# Altium footprint library Discrete.PcbLib: 51 footprints (part 3 of 4)
Each footprint in its own frame and in the unit in brackets; x right, y up, seen from the top. Pads: shape width x height; smd on the part's side, far side on the other; paste and mask are expansions set on the pad; w line width, h text height; cw(c..) or ccw(c..) is an arc to the next point about the centre after c.
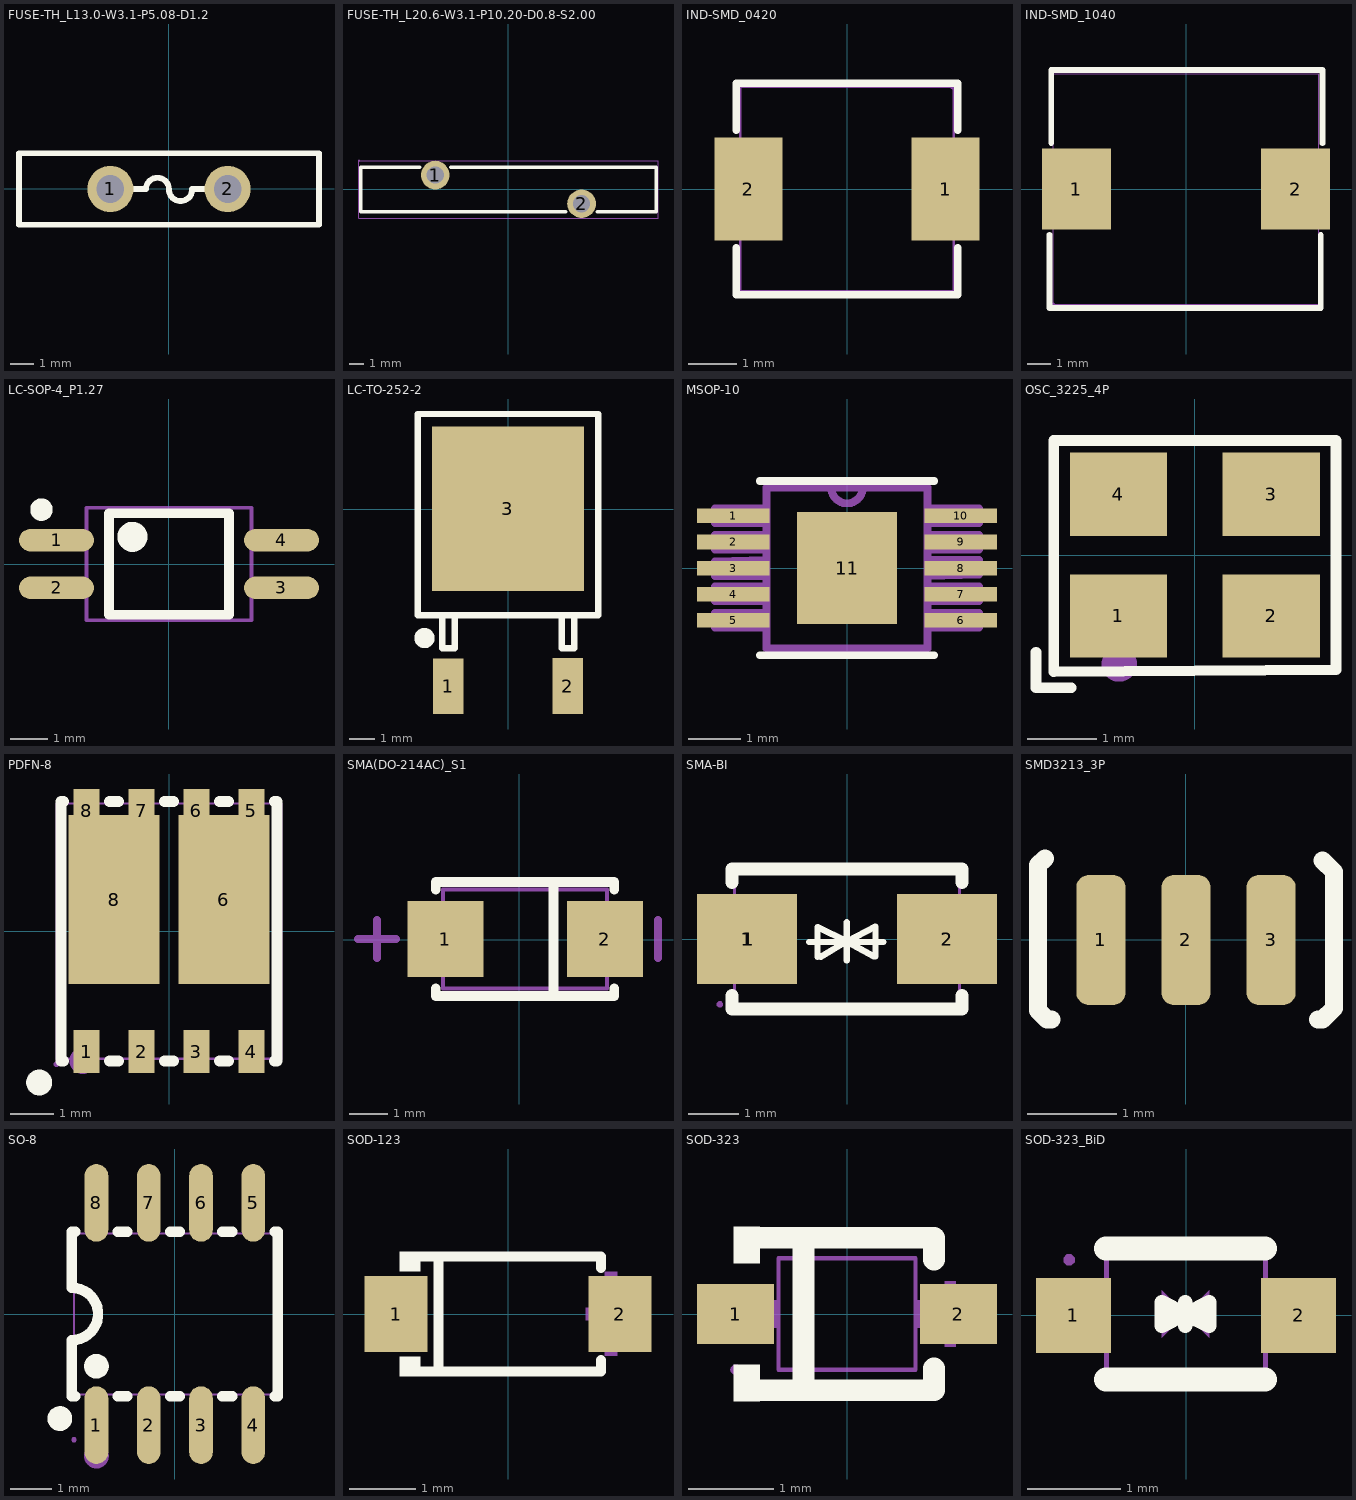
[diagram p2: the footprints below, top view; thin cyan lines are the x and y axes]

## FUSE-TH_L13.0-W3.1-P5.08-D1.2 [mm]
pads (2):
  round 2 hole 1.2: 1(-2.54,0) 2(2.54,0)
Top Overlay:
  lines w0.254: -6.5,-1.55 -6.5,1.55 6.5,1.55 6.5,-1.55 ; -6.5,-1.55 6.5,-1.55 ; -2,0 -1,0 cw(c-0.5,-0.011) 0,0 ccw(c0.5,-0.023) 1.001,0 ; 1,0 2,0
3D body "C369106_FUSE-TH_L13.2-W3.0-P5.1.step": height 12.7, standoff -6.3, extent -6.591,-4.772 6.54,4.772

## FUSE-TH_L20.6-W3.1-P10.20-D0.8-S2.00 [mm]
pads (2):
  round 2 hole 1.2: 1(-5.1,1) 2(5.1,-1)
Top Overlay:
  lines w0.254: -6.201,1.55 -10.3,1.55 -10.3,-1.55 3.999,-1.55 ; -3.999,1.55 10.287,1.55 ; 6.201,-1.55 10.3,-1.55 10.3,1.5
Mechanical 15:
  region: -10.367,2 -10.367,2.025 -10.402,2.06 -10.452,2.06 -10.487,2.025 -10.487,2 -10.487,1.975 -10.452,1.94 -10.402,1.94 -10.367,1.975
  region: 5.6,-1 5.599,-0.901 5.522,-0.72 5.381,-0.581 5.199,-0.506 5.001,-0.506 4.819,-0.581 4.678,-0.72 4.601,-0.901 4.6,-1 4.601,-1.099 4.678,-1.28 4.819,-1.419 5.001,-1.494 5.199,-1.494 5.381,-1.419 5.522,-1.28 5.599,-1.099
  region: -4.6,1 -4.601,1.099 -4.678,1.28 -4.819,1.419 -5.001,1.494 -5.199,1.494 -5.381,1.419 -5.522,1.28 -5.599,1.099 -5.6,1 -5.599,0.901 -5.522,0.72 -5.381,0.581 -5.199,0.506 -5.001,0.506 -4.819,0.581 -4.678,0.72 -4.601,0.901
  lines w0.051: -10.427,-2 -10.427,2 10.427,2 10.427,-2 -10.427,-2
3D body "C369094_FUSE-TH_L20.6-W3.1-H24.6-P10.2-D0.8-S2.00.step": height 6.7, standoff -25.5, extent -10.148,-1.703 10.452,1.397

## IND-SMD_0420 [mm]
pads (2):
  rect 1.4x2.12 smd: 1(2.028,0) 2(-2.028,0)
Top Overlay:
  lines w0.152: -2.276,-1.212 -2.276,-2.176 2.276,-2.176 2.276,-1.212 ; -2.276,1.212 -2.276,2.176 2.276,2.176 2.276,1.212
Mechanical 15:
  region: -2.2,1 -1.4,1 -1.4,-1 -2.2,-1
  region: 1.4,1 2.2,1 2.2,-1 1.4,-1
  region: 2.26,2.1 2.259,2.124 2.224,2.158 2.176,2.158 2.141,2.124 2.14,2.1 2.141,2.076 2.176,2.042 2.224,2.042 2.259,2.076
  lines w0.051: -2.2,-2.1 2.2,-2.1 2.2,2.1 -2.2,2.1 -2.2,-2.1
3D body "IND_SMD_POW_INTMOD_0420.STEP": height 1.81, standoff -0.2, extent -2.15,-1.974 2.15,2.025

## IND-SMD_1040 [mm]
pads (2):
  rect 3x3.5 smd: 1(-4.75,0) 2(4.75,0)
Top Overlay:
  lines w0.254: -5.92,-1.98 -5.92,-5.16 5.84,-5.16 5.84,-2 ; -5.84,2 -5.84,5.16 5.92,5.16 5.92,1.98
Mechanical 15:
  region: -5.69,-5 -5.69,-4.975 -5.725,-4.94 -5.775,-4.94 -5.81,-4.975 -5.81,-5 -5.81,-5.025 -5.775,-5.06 -5.725,-5.06 -5.69,-5.025
  region: 3.75,1.5 5.75,1.5 5.75,-1.5 3.75,-1.5
  region: -5.75,1.5 -3.75,1.5 -3.75,-1.5 -5.75,-1.5
  lines w0.051: -5.75,-5 5.75,-5 5.75,5 -5.75,5 -5.75,-5
3D body "IND_SMD_POW_INTMOD_1040.STEP": height 4.06, standoff 0.05, extent -5.324,-4.949 5.476,5.051

## LC-SOP-4_P1.27 [mm]
pads (4):
  oval 2x0.6 smd: 1(-3,0.635) 2(-3,-0.635) 3(3,-0.635) 4(3,0.635)
Top Overlay:
  circle w0.4: c-0.975,0.725 r0.2
  circle w0.3: c-3.4,1.45 r0.15
  lines w0.254: -1.6,-1.35 1.6,-1.35 1.6,1.35 -1.6,1.35 -1.6,-1.35
Mechanical 13:
  lines w0.1: -2.2,-1.5 2.2,-1.5 2.2,1.5 -2.2,1.5 -2.2,-1.5
3D body "User Library-SOP-4-1.STEP": height 2.1, standoff 0, extent -3.475,-1.428 3.525,1.372

## LC-TO-252-2 [mm]
pads (3):
  rect 1.2x2.2 smd: 1(-2.361,-6.985) 2(2.361,-6.981)
  rect 6x6.5 smd: 3(0,0.015)
Top Overlay:
  circle w0.4: c-3.3,-5.085 r0.2
  lines w0.254: -2.6,-4.185 -2.6,-5.485 -2.1,-5.485 -2.1,-4.185 ; 2.123,-4.181 2.123,-5.481 2.623,-5.481 2.623,-4.181 ; -3.573,-4.185 3.573,-4.185 3.573,3.765 -3.573,3.765 -3.573,-4.185
3D body "TO-252.step": height 2.55, standoff -0.17, extent -3.365,-7.437 3.365,2.983

## MSOP-10 [mil] "MSOP For CH340-E Use"
pads (11):
  rect 55x11 smd: 1(-86,39.4) 2(-86,19.7) 3(-86,0) 4(-86,-19.7) 5(-86,-39.4) 6(86,-39.4) 7(86,-19.7) 8(86,0) 9(86,19.7) 10(86,39.4)
  rect 76x85 smd: 11(0,0)
Top Overlay:
  lines w6: -66,-66 66,-66 ; -66,66 66,66
Mechanical 13:
  lines w6: -12,61 ccw(c0,61) 12,61 ; -12,61 -61,61 -61,-61 61,-61 61,61 12,61 ; -12,61 12,61 ; -100,-45 -61,-45 -61,-34 -100,-34 -100,-45 ; -100,-25 -61,-25 -61,-14 -100,-14 -100,-25 ; -100,-6 -61,-6 -61,6 -100,5 -100,-6 ; -100,14 -61,14 -61,25 -100,25 -100,14 ; -100,34 -61,34 -61,45 -100,45 -100,34 ; 61,-45 100,-45 100,-34 61,-34 61,-45 ; 61,-25 100,-25 100,-14 61,-14 61,-25 ; 61,-6 100,-5 100,6 61,6 61,-6 ; 61,14 100,14 100,25 61,25 61,14 ; 61,34 100,34 100,45 61,45 61,34
3D body "step_temp.STEP": height 42.47, standoff -0.83, extent -96.45,-59.05 96.46,59.06

## OSC_3225_4P [mm]
height 1.45
pads (4):
  rect 1.4x1.2 smd: 1(-1.1,-0.875) 2(1.1,-0.875) 3(1.1,0.875) 4(-1.1,0.875)
Top Overlay:
  lines w0.152: -2.286,-1.397 -2.286,-1.905 -1.778,-1.905 ; -2.029,-1.679 2.032,-1.651 2.032,0 2.032,1.651 -2.029,1.651 -2.029,-1.679
Mechanical 15:
  circle w0.254: c-1.088,-1.567 r0.127
  region: -1.486,-0.428 -1.45,-0.428 -1.45,-1.004 -1.486,-1.004
  region: -1.522,-0.428 -1.486,-0.428 -1.486,-1.004 -1.522,-1.004
  region: -1.63,-0.464 -1.594,-0.464 -1.594,-0.572 -1.63,-0.572
  region: -1.594,-0.464 -1.558,-0.464 -1.558,-1.004 -1.594,-1.004
  region: -1.666,-0.5 -1.63,-0.5 -1.63,-0.608 -1.666,-0.608
  region: -1.702,-0.536 -1.666,-0.536 -1.666,-0.608 -1.702,-0.608
  region: -1.738,-0.536 -1.702,-0.536 -1.702,-0.608 -1.738,-0.608
  region: -1.558,-0.428 -1.522,-0.428 -1.522,-1.004 -1.558,-1.004
3D body "User Library-SMD-3225_4P.STEP": height 1.05, standoff 0, extent -1.6,-1.25 1.6,1.25

## PDFN-8 [mm]
pads (10):
  rect 0.6x1 smd mask+0.05: 1(-1.905,-2.784) 2(-0.635,-2.784) 3(0.635,-2.784) 4(1.905,-2.784) 5(1.905,2.784) 6(0.635,2.784) 7(-0.635,2.784) 8(-1.905,2.784)
  rect 2.1x3.9 smd mask+0.05: 6(1.268,0.73) 8(-1.268,0.73)
Top Overlay:
  circle w0.3: c-3,-3.5 r0.15
  lines w0.254: -2.436,3 -2.5,3 -2.5,-3 ; -1.374,3 -1.166,3 ; -0.104,-3 0.104,-3 ; -0.104,3 0.104,3 ; 1.166,-3 1.374,-3 ; 1.166,3 1.374,3 ; 2.436,-3 2.5,-3 2.5,3 2.436,3 ; -2.5,-3 -2.436,-3 -2.5,-3 ; -1.374,-3 -1.166,-3 -1.374,-3
Top Paste:
  region: -2.205,3.284 -2.205,2.68 -2.318,2.68 -2.318,-1.22 -0.218,-1.22 -0.218,2.68 -0.335,2.68 -0.335,3.284 -0.935,3.284 -0.935,2.68 -1.605,2.68 -1.605,3.284
  region: 2.205,2.68 2.205,3.284 1.605,3.284 1.605,2.68 0.935,2.68 0.935,3.284 0.335,3.284 0.335,2.68 0.218,2.68 0.218,-1.22 2.318,-1.22 2.318,2.68
  region: 2.205,-3.284 2.205,-2.284 1.605,-2.284 1.605,-3.284
  region: -2.205,-2.284 -2.205,-3.284 -1.605,-3.284 -1.605,-2.284
  region: 0.935,-3.284 0.935,-2.284 0.335,-2.284 0.335,-3.284
  region: -0.335,-3.284 -0.335,-2.284 -0.935,-2.284 -0.935,-3.284
Mechanical 6:
  circle w0.3: c-2,-3 r0.151
Mechanical 15:
  region: -2.54,-3.075 -2.54,-3.05 -2.575,-3.015 -2.625,-3.015 -2.66,-3.05 -2.66,-3.075 -2.66,-3.1 -2.625,-3.135 -2.575,-3.135 -2.54,-3.1
  region: -2.105,3.075 -1.705,3.075 -1.705,2.575 -2.105,2.575
  region: -0.835,3.075 -0.435,3.075 -0.435,2.575 -0.835,2.575
  region: 0.435,3.075 0.835,3.075 0.835,2.575 0.435,2.575
  region: 1.705,3.075 2.105,3.075 2.105,2.575 1.705,2.575
  region: -2.105,-2.475 -1.705,-2.475 -1.705,-3.075 -2.105,-3.075
  region: -0.835,-2.475 -0.435,-2.475 -0.435,-3.075 -0.835,-3.075
  region: 0.435,-2.475 0.835,-2.475 0.835,-3.075 0.435,-3.075
  region: 1.705,-2.475 2.105,-2.475 2.105,-3.075 1.705,-3.075
  region: -2.211,2.593 -0.311,2.593 -0.311,-1.077 -2.211,-1.077
  region: 0.316,2.593 2.216,2.593 2.216,-1.077 0.316,-1.077
  lines w0.051: -2.6,-2.95 2.6,-2.95 2.6,2.95 -2.6,2.95 -2.6,-2.95
3D body "User Library-SON8-5x6mm.STEP": height 1.06, standoff 0.01, extent -2.5,-3 2.5,3

## SMA(DO-214AC)_S1 [mm]
pads (2):
  rect 2x2 smd: 1(-1.948,0.025) 2(2.252,0.025)
Top Overlay:
  lines w0.254: -2.198,-1.275 -2.198,-1.475 2.502,-1.475 2.502,-1.275 ; -2.198,1.325 -2.198,1.525 2.502,1.525 2.502,1.325 ; 0.902,-1.475 0.902,1.525
Mechanical 13:
  lines w0.1: -2.008,-1.275 -2.008,1.325 2.312,1.325 2.312,-1.275 -2.008,-1.275
Mechanical 15:
  lines w0.203: -4.248,0.025 -3.248,0.025 ; -3.748,-0.475 -3.748,0.525 ; 3.652,-0.475 3.652,0.525
3D body "Diode SMA.stp": height 2.41, standoff 0, extent -2.461,-1.562 2.819,1.358

## SMA-BI [mm]
pads (4):
  rect 2x1.8 smd: 1(-2,0) 2(2,0)
  rect 2x1.8 on Top Solder: 1(-1.968,0) 2(2,0)
Top Overlay:
  lines w0.127: -0.76,-0.06 0.73,-0.06 ; -0.59,-0.36 -0.59,0.24 -0.002,-0.049 ; -0.53,-0.36 -0.002,-0.049 ; -0.002,-0.43 -0.002,-0.049 ; -0.002,0.332 -0.002,-0.049 ; 0.54,-0.35 -0.002,-0.049 ; 0.57,-0.35 0.57,0.25 -0.002,-0.049
  lines w0.254: -2.3,-1.131 -2.3,-1.4 2.3,-1.4 2.3,-1.131 ; -2.3,1.131 -2.3,1.4 2.3,1.4 2.3,1.131
Mechanical 15:
  region: 1.458,-0.725 1.458,0.725 2.542,0.725 2.542,-0.725
  region: -2.542,-0.725 -2.542,0.725 -1.458,0.725 -1.458,-0.725
  region: -2.482,-1.308 -2.482,-1.283 -2.518,-1.248 -2.567,-1.248 -2.602,-1.283 -2.602,-1.308 -2.602,-1.332 -2.567,-1.368 -2.518,-1.368 -2.482,-1.332
  lines w0.051: -2.25,-1.308 2.25,-1.308 2.25,1.307 -2.25,1.307 -2.25,-1.308
3D body "Diode SMA.stp": height 2.41, standoff 0, extent -2.667,-1.46 2.613,1.46

## SMD3213_3P [mm]
height 4.3
pads (3):
  rrect50% 0.55x1.45 smd: 1(-0.95,0) 2(0,0) 3(0.95,0)
Top Overlay:
  lines w0.2: -1.576,0.911 -1.651,0.836 -1.651,-0.789 -1.551,-0.889 -1.501,-0.889 ; 1.474,-0.889 1.524,-0.889 1.651,-0.762 1.651,0.762 1.524,0.889
3D body "123123123.stp": height 0.7, standoff 0, extent -1.6,-0.65 1.6,0.65
3D body: height 0, standoff 0, extent 1.474,-0.89 1.652,0.89
3D body: height 0, standoff 0, extent 1.474,-0.89 1.652,0.89

## SO-8 [mm]
pads (8):
  oval 0.574x1.888 smd: 1(-1.905,-2.699) 2(-0.635,-2.699) 3(0.635,-2.699) 4(1.905,-2.699) 5(1.905,2.699) 6(0.635,2.699) 7(-0.635,2.699) 8(-1.905,2.699)
Top Overlay:
  circle w0.3: c-1.905,-1.27 r0.15
  circle w0.3: c-2.794,-2.54 r0.15
  lines w0.254: -2.421,-2 -2.5,-2 -2.5,-0.635 ccw(c-2.5,0) -2.499,0.635 -2.5,2 -2.421,2 ; -1.389,-2 -1.151,-2 ; -1.389,2 -1.151,2 ; -0.119,-2 0.119,-2 ; -0.119,2 0.119,2 ; 1.151,-2 1.389,-2 ; 1.151,2 1.389,2 ; 2.421,-2 2.5,-2 2.5,2 2.421,2
Mechanical 6:
  circle w0.3: c-1.905,-3.45 r0.15
Mechanical 15:
  region: -2.39,-3.05 -2.39,-3.025 -2.425,-2.99 -2.475,-2.99 -2.51,-3.025 -2.51,-3.05 -2.51,-3.075 -2.475,-3.11 -2.425,-3.11 -2.39,-3.075
  region: -2.11,-3.05 -2.11,-2.54 -1.7,-2.54 -1.7,-3.05
  region: -2.11,-2.55 -2.11,-1.945 -1.7,-1.945 -1.7,-2.55
  region: -0.84,-3.05 -0.84,-2.54 -0.43,-2.54 -0.43,-3.05
  region: -0.84,-2.55 -0.84,-1.945 -0.43,-1.945 -0.43,-2.55
  region: 0.43,-3.05 0.43,-2.54 0.84,-2.54 0.84,-3.05
  region: 0.43,-2.55 0.43,-1.945 0.84,-1.945 0.84,-2.55
  region: 1.7,-3.05 1.7,-2.54 2.11,-2.54 2.11,-3.05
  region: 1.7,-2.55 1.7,-1.945 2.11,-1.945 2.11,-2.55
  region: -2.11,3.05 -2.11,2.54 -1.7,2.54 -1.7,3.05
  region: -2.11,2.55 -2.11,1.945 -1.7,1.945 -1.7,2.55
  region: -0.84,3.05 -0.84,2.54 -0.43,2.54 -0.43,3.05
  region: -0.84,2.55 -0.84,1.945 -0.43,1.945 -0.43,2.55
  region: 0.43,3.05 0.43,2.54 0.84,2.54 0.84,3.05
  region: 0.43,2.55 0.43,1.945 0.84,1.945 0.84,2.55
  region: 1.7,3.05 1.7,2.54 2.11,2.54 2.11,3.05
  region: 1.7,2.55 1.7,1.945 2.11,1.945 2.11,2.55
  lines w0.051: -2.45,-1.955 -2.45,1.955 2.45,1.955 2.45,-1.955 -2.45,-1.955
3D body "SO-8.STEP": height 1.75, standoff -0.18, extent -2.489,-3.08 2.511,3.182

## SOD-123 [mm]
pads (2):
  rect 0.95x1.15 smd: 1(-1.693,0) 2(1.693,0)
Top Overlay:
  region: -1.33,-0.942 -1.33,-0.647 -1.635,-0.647 -1.635,-0.942
  region: -1.33,0.942 -1.33,0.647 -1.635,0.647 -1.635,0.942
  lines w0.152: -1.406,-0.866 1.406,-0.866 1.406,-0.698 ; -1.406,0.866 1.406,0.866 1.406,0.698 ; -1.049,-0.866 -1.049,0.866
Mechanical 15:
  region: 1.651,0.635 1.651,-0.629 1.461,-0.629 1.461,0.635
  region: 1.935,0.098 1.935,-0.092 1.177,-0.092 1.177,0.098
  region: -2.03,0.095 -2.03,-0.095 -1.272,-0.095 -1.272,0.095
3D body "SOD-123.step": height 1.35, standoff 0, extent -1.93,-0.902 1.93,0.902

## SOD-323 [mm]
pads (2):
  rect 0.9x0.7 smd paste+0 mask+0.05: 1(-1.3,0) 2(1.3,0)
Top Overlay:
  region: -1.016,1.016 -1.016,0.593 -1.321,0.593 -1.321,1.016
  region: -1.016,-1.016 -1.016,-0.593 -1.321,-0.593 -1.321,-1.016
  lines w0.254: -1.143,-0.889 -0.728,-0.889 ; -1.143,0.889 -0.889,0.889 0.889,0.889 1.016,0.889 1.016,0.635 ; -0.889,-0.889 0.889,-0.889 ; -0.508,-0.889 -0.508,0.889 ; 0.763,-0.889 1.016,-0.889 1.016,-0.635
Mechanical 6:
  region: 0.826,0.064 1.587,0.064 1.587,-0.064 0.826,-0.064
  region: 1.143,-0.381 1.143,0.381 1.27,0.381 1.27,-0.381
  region: -1.651,0 -0.889,0 -0.889,-0.127 -1.651,-0.127
Mechanical 15:
  region: 1.025,-0.163 1.025,0.163 1.35,0.163 1.35,-0.163
  region: 0.79,-0.163 0.79,0.163 1.035,0.163 1.035,-0.163
  region: -1.35,-0.163 -1.35,0.163 -1.025,0.163 -1.025,-0.163
  region: -1.035,-0.163 -1.035,0.163 -0.79,0.163 -0.79,-0.163
  region: -1.24,-0.65 -1.241,-0.626 -1.276,-0.593 -1.324,-0.593 -1.359,-0.626 -1.36,-0.65 -1.359,-0.674 -1.324,-0.707 -1.276,-0.707 -1.241,-0.674
  lines w0.051: -0.8,-0.65 0.8,-0.65 0.8,0.65 -0.8,0.65 -0.8,-0.65
3D body "SOD-323.step": height 0.99, standoff 0, extent -1.422,-0.673 1.27,0.673

## SOD-323_BiD [mm]
pads (2):
  rect 0.8x0.8 smd: 1(-1.205,0) 2(1.205,0)
Top Overlay:
  lines w0.154: -0.133,0.015 -0.003,0.015 0.248,0.142 0.248,-0.112 -0.004,0.012 ; -0.008,0.018 -0.26,0.142 -0.26,-0.112 -0.009,0.015 0.121,0.015 ; -0.006,-0.112 -0.006,0.142
  lines w0.254: -0.855,-0.685 0.845,-0.685 ; -0.855,0.715 0.845,0.715
Mechanical 6:
  region: -0.259,0.269 -0.259,-0.239 -0.005,0.015
  region: 0.249,-0.239 0.249,0.269 -0.005,0.015
Mechanical 15:
  region: -1.19,0.595 -1.191,0.619 -1.226,0.653 -1.274,0.653 -1.309,0.619 -1.31,0.595 -1.309,0.571 -1.274,0.537 -1.226,0.537 -1.191,0.571
  region: 0.835,-0.162 0.835,0.163 0.955,0.163 0.955,-0.162
  region: 0.945,-0.162 0.945,0.163 1.25,0.163 1.25,-0.162
  region: -0.965,-0.162 -0.965,0.163 -0.845,0.163 -0.845,-0.162
  region: -1.25,-0.162 -1.25,0.163 -0.955,0.163 -0.955,-0.162
  lines w0.051: -0.85,-0.625 -0.85,0.625 0.85,0.625 0.85,-0.625 -0.85,-0.625
3D body "SOD-323.step": height 0.99, standoff 0, extent -1.32,-0.673 1.372,0.673